# Altium schematic symbol library TCAN332GD.SchLib: 1 symbol
Pins are listed as number, name and electrical type; pins without a type are passive.

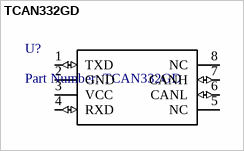
[diagram p0: symbol TCAN332GD]

## TCAN332GD
designator U?, comment Part Number: TCAN332GD
No Description Available; Vendor: Texas Instruments; Built_By: EMA_UL_Team; Manufacturer_Part_Number: TCAN332GD; Copyright: Copyright (C) 2018 Accelerated Designs. All rights reserved; RefDes: RefDes; Type: DEV; Value: Value
footprint SOIC127P600X175-8N
pins: 1 TXD (io), 2 GND (power), 3 VCC (power), 4 RXD (io), 5 NC, 6 CANL (io), 7 CANH (io), 8 NC